# EAGLE library part XEF232-1024-FB374-C40 (library samacsys)
XMOS - XEF232-1024-FB374-C40 - MCU, 32BIT, XCORE, FBGA-374 Source: Datasheet <https://componentsearchengine.com/Datasheets/2/XEF232-1024-FB374-C40.pdf>
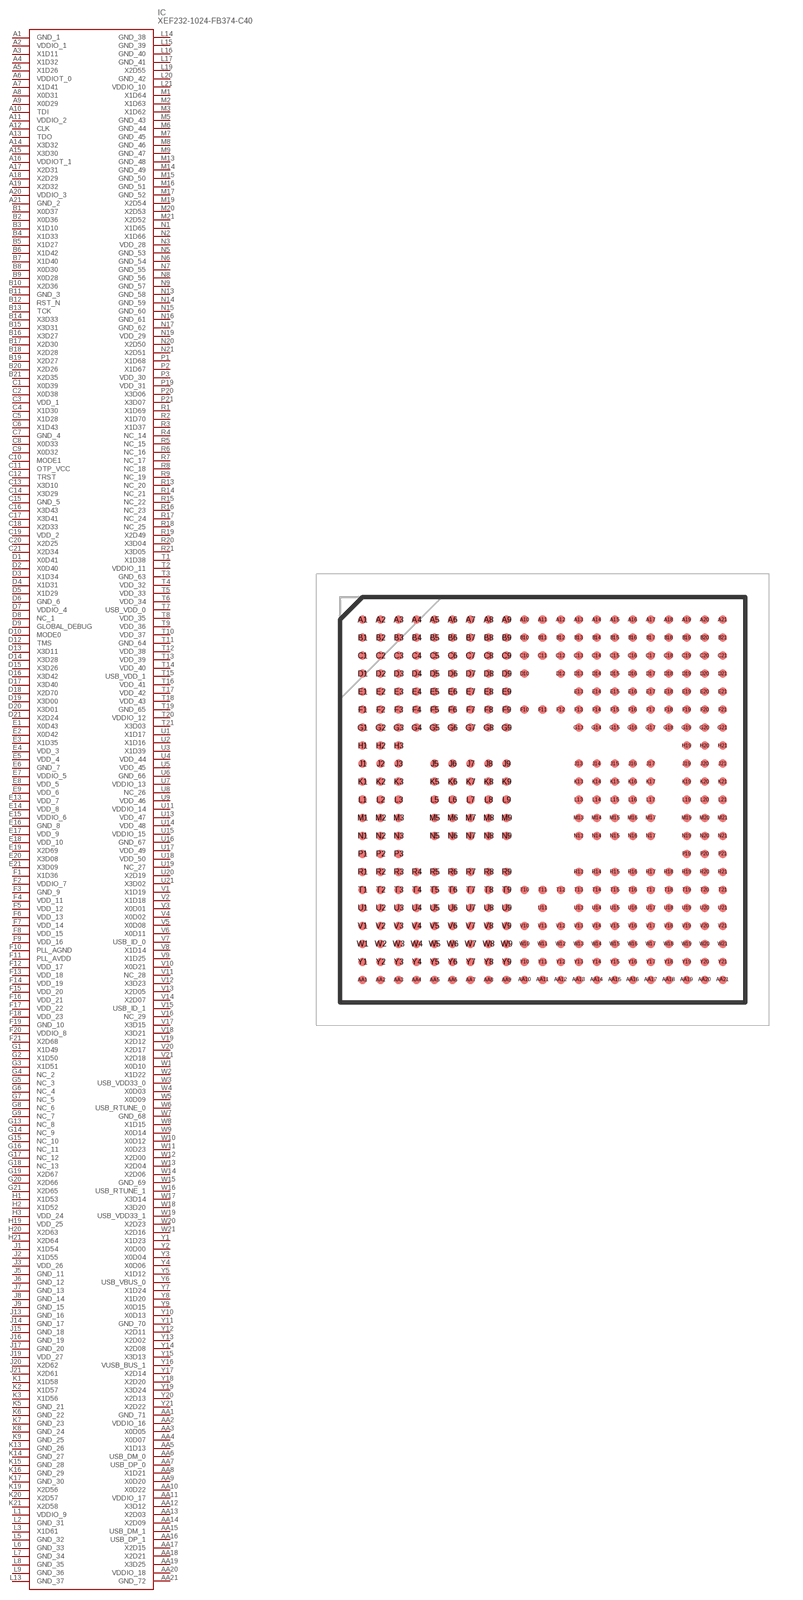
[diagram p1: symbol with the pads of BGA374C80P21X21_1800X1800X136; footprint BGA374C80P21X21_1800X1800X136]

Designator prefix IC

## XEF232-1024-FB374-C40 (Description: XMOS - XEF232-1024-FB374-C40 - MCU, 32BIT, XCORE, FBGA-374; Height: 1.36mm; Manufacturer_Name: XMOS; Manufacturer_Part_Number: XEF232-1024-FB374-C40)  [BGA374C80P21X21_1800X1800X136]
A1  GND_1
A2  VDDIO_1
A3  X1D11
A4  X1D32
A5  X1D26
A6  VDDIOT_0
A7  X1D41
A8  X0D31
A9  X0D29
A10  TDI
A11  VDDIO_2
A12  CLK
A13  TDO
A14  X3D32
A15  X3D30
A16  VDDIOT_1
A17  X2D31
A18  X2D29
A19  X2D32
A20  VDDIO_3
A21  GND_2
AA1  GND_71
AA2  VDDIO_16
AA3  X0D05
AA4  X0D07
AA5  X1D13
AA6  USB_DM_0
AA7  USB_DP_0
AA8  X1D21
AA9  X0D20
AA10  X0D22
AA11  VDDIO_17
AA12  X3D12
AA13  X2D03
AA14  X2D09
AA15  USB_DM_1
AA16  USB_DP_1
AA17  X2D15
AA18  X2D21
AA19  X3D25
AA20  VDDIO_18
AA21  GND_72
B1  X0D37
B2  X0D36
B3  X1D10
B4  X1D33
B5  X1D27
B6  X1D42
B7  X1D40
B8  X0D30
B9  X0D28
B10  X2D36
B11  GND_3
B12  RST_N
B13  TCK
B14  X3D33
B15  X3D31
B16  X3D27
B17  X2D30
B18  X2D28
B19  X2D27
B20  X2D26
B21  X2D35
C1  X0D39
C2  X0D38
C3  VDD_1
C4  X1D30
C5  X1D28
C6  X1D43
C7  GND_4
C8  X0D33
C9  X0D32
C10  MODE1
C11  OTP_VCC
C12  TRST
C13  X3D10
C14  X3D29
C15  GND_5
C16  X3D43
C17  X3D41
C18  X2D33
C19  VDD_2
C20  X2D25
C21  X2D34
D1  X0D41
D2  X0D40
D3  X1D34
D4  X1D31
D5  X1D29
D6  GND_6
D7  VDDIO_4
D8  NC_1
D9  GLOBAL_DEBUG
D10  MODE0
D12  TMS
D13  X3D11
D14  X3D28
D15  X3D26
D16  X3D42
D17  X3D40
D18  X2D70
D19  X3D00
D20  X3D01
D21  X2D24
E1  X0D43
E2  X0D42
E3  X1D35
E4  VDD_3
E5  VDD_4
E6  GND_7
E7  VDDIO_5
E8  VDD_5
E9  VDD_6
E13  VDD_7
E14  VDD_8
E15  VDDIO_6
E16  GND_8
E17  VDD_9
E18  VDD_10
E19  X2D69
E20  X3D08
E21  X3D09
F1  X1D36
F2  VDDIO_7
F3  GND_9
F4  VDD_11
F5  VDD_12
F6  VDD_13
F7  VDD_14
F8  VDD_15
F9  VDD_16
F10  PLL_AGND
F11  PLL_AVDD
F12  VDD_17
F13  VDD_18
F14  VDD_19
F15  VDD_20
F16  VDD_21
F17  VDD_22
F18  VDD_23
F19  GND_10
F20  VDDIO_8
F21  X2D68
G1  X1D49
G2  X1D50
G3  X1D51
G4  NC_2
G5  NC_3
G6  NC_4
G7  NC_5
G8  NC_6
G9  NC_7
G13  NC_8
G14  NC_9
G15  NC_10
G16  NC_11
G17  NC_12
G18  NC_13
G19  X2D67
G20  X2D66
G21  X2D65
H1  X1D53
H2  X1D52
H3  VDD_24
H19  VDD_25
H20  X2D63
H21  X2D64
J1  X1D54
J2  X1D55
J3  VDD_26
J5  GND_11
J6  GND_12
J7  GND_13
J8  GND_14
J9  GND_15
J13  GND_16
J14  GND_17
J15  GND_18
J16  GND_19
J17  GND_20
J19  VDD_27
J20  X2D62
J21  X2D61
K1  X1D58
K2  X1D57
K3  X1D56
K5  GND_21
K6  GND_22
K7  GND_23
K8  GND_24
K9  GND_25
K13  GND_26
K14  GND_27
K15  GND_28
K16  GND_29
K17  GND_30
K19  X2D56
K20  X2D57
K21  X2D58
L1  VDDIO_9
L2  GND_31
L3  X1D61
L5  GND_32
L6  GND_33
L7  GND_34
L8  GND_35
L9  GND_36
L13  GND_37
L14  GND_38
L15  GND_39
L16  GND_40
L17  GND_41
L19  X2D55
L20  GND_42
L21  VDDIO_10
M1  X1D64
M2  X1D63
M3  X1D62
M5  GND_43
M6  GND_44
M7  GND_45
M8  GND_46
M9  GND_47
M13  GND_48
M14  GND_49
M15  GND_50
M16  GND_51
M17  GND_52
M19  X2D54
M20  X2D53
M21  X2D52
N1  X1D65
N2  X1D66
N3  VDD_28
N5  GND_53
N6  GND_54
N7  GND_55
N8  GND_56
N9  GND_57
N13  GND_58
N14  GND_59
N15  GND_60
N16  GND_61
N17  GND_62
N19  VDD_29
N20  X2D50
N21  X2D51
P1  X1D68
P2  X1D67
P3  VDD_30
P19  VDD_31
P20  X3D06
P21  X3D07
R1  X1D69
R2  X1D70
R3  X1D37
R4  NC_14
R5  NC_15
R6  NC_16
R7  NC_17
R8  NC_18
R9  NC_19
R13  NC_20
R14  NC_21
R15  NC_22
R16  NC_23
R17  NC_24
R18  NC_25
R19  X2D49
R20  X3D04
R21  X3D05
T1  X1D38
T2  VDDIO_11
T3  GND_63
T4  VDD_32
T5  VDD_33
T6  VDD_34
T7  USB_VDD_0
T8  VDD_35
T9  VDD_36
T10  VDD_37
T11  GND_64
T12  VDD_38
T13  VDD_39
T14  VDD_40
T15  USB_VDD_1
T16  VDD_41
T17  VDD_42
T18  VDD_43
T19  GND_65
T20  VDDIO_12
T21  X3D03
U1  X1D17
U2  X1D16
U3  X1D39
U4  VDD_44
U5  VDD_45
U6  GND_66
U7  VDDIO_13
U8  NC_26
U9  VDD_46
U11  VDDIO_14
U13  VDD_47
U14  VDD_48
U15  VDDIO_15
U16  GND_67
U17  VDD_49
U18  VDD_50
U19  NC_27
U20  X2D19
U21  X3D02
V1  X1D19
V2  X1D18
V3  X0D01
V4  X0D02
V5  X0D08
V6  X0D11
V7  USB_ID_0
V8  X1D14
V9  X1D25
V10  X0D21
V11  NC_28
V12  X3D23
V13  X2D05
V14  X2D07
V15  USB_ID_1
V16  NC_29
V17  X3D15
V18  X3D21
V19  X2D12
V20  X2D17
V21  X2D18
W1  X0D10
W2  X1D22
W3  USB_VDD33_0
W4  X0D03
W5  X0D09
W6  USB_RTUNE_0
W7  GND_68
W8  X1D15
W9  X0D14
W10  X0D12
W11  X0D23
W12  X2D00
W13  X2D04
W14  X2D06
W15  GND_69
W16  USB_RTUNE_1
W17  X3D14
W18  X3D20
W19  USB_VDD33_1
W20  X2D23
W21  X2D16
Y1  X1D23
Y2  X0D00
Y3  X0D04
Y4  X0D06
Y5  X1D12
Y6  USB_VBUS_0
Y7  X1D24
Y8  X1D20
Y9  X0D15
Y10  X0D13
Y11  GND_70
Y12  X2D11
Y13  X2D02
Y14  X2D08
Y15  X3D13
Y16  VUSB_BUS_1
Y17  X2D14
Y18  X2D20
Y19  X3D24
Y20  X2D13
Y21  X2D22

## Footprint BGA374C80P21X21_1800X1800X136 (pad centres in mm)
XEF232-1024-FB374-C40
smd 0.37 x 0.37: A1 -8,8; A2 -7.2,8; A3 -6.4,8; A4 -5.6,8; A5 -4.8,8; A6 -4,8; A7 -3.2,8; A8 -2.4,8; A9 -1.6,8; A10 -0.8,8; A11 0,8; A12 0.8,8; A13 1.6,8; A14 2.4,8; A15 3.2,8; A16 4,8; A17 4.8,8; A18 5.6,8; A19 6.4,8; A20 7.2,8; A21 8,8; AA1 -8,-8; AA2 -7.2,-8; AA3 -6.4,-8; AA4 -5.6,-8; AA5 -4.8,-8; AA6 -4,-8; AA7 -3.2,-8; AA8 -2.4,-8; AA9 -1.6,-8; AA10 -0.8,-8; AA11 0,-8; AA12 0.8,-8; AA13 1.6,-8; AA14 2.4,-8; AA15 3.2,-8; AA16 4,-8; AA17 4.8,-8; AA18 5.6,-8; AA19 6.4,-8; AA20 7.2,-8; AA21 8,-8; B1 -8,7.2; B2 -7.2,7.2; B3 -6.4,7.2; B4 -5.6,7.2; B5 -4.8,7.2; B6 -4,7.2; B7 -3.2,7.2; B8 -2.4,7.2; B9 -1.6,7.2; B10 -0.8,7.2; B11 0,7.2; B12 0.8,7.2; B13 1.6,7.2; B14 2.4,7.2; B15 3.2,7.2; B16 4,7.2; B17 4.8,7.2; B18 5.6,7.2; B19 6.4,7.2; B20 7.2,7.2; B21 8,7.2; C1 -8,6.4; C2 -7.2,6.4; C3 -6.4,6.4; C4 -5.6,6.4; C5 -4.8,6.4; C6 -4,6.4; C7 -3.2,6.4; C8 -2.4,6.4; C9 -1.6,6.4; C10 -0.8,6.4; C11 0,6.4; C12 0.8,6.4; C13 1.6,6.4; C14 2.4,6.4; C15 3.2,6.4; C16 4,6.4; C17 4.8,6.4; C18 5.6,6.4; C19 6.4,6.4; C20 7.2,6.4; C21 8,6.4; D1 -8,5.6; D2 -7.2,5.6; D3 -6.4,5.6; D4 -5.6,5.6; D5 -4.8,5.6; D6 -4,5.6; D7 -3.2,5.6; D8 -2.4,5.6; D9 -1.6,5.6; D10 -0.8,5.6; D12 0.8,5.6; D13 1.6,5.6; D14 2.4,5.6; D15 3.2,5.6; D16 4,5.6; D17 4.8,5.6; D18 5.6,5.6; D19 6.4,5.6; D20 7.2,5.6; D21 8,5.6; E1 -8,4.8; E2 -7.2,4.8; E3 -6.4,4.8; E4 -5.6,4.8; E5 -4.8,4.8; E6 -4,4.8; E7 -3.2,4.8; E8 -2.4,4.8; E9 -1.6,4.8; E13 1.6,4.8; E14 2.4,4.8; E15 3.2,4.8; E16 4,4.8; E17 4.8,4.8; E18 5.6,4.8; E19 6.4,4.8; E20 7.2,4.8; E21 8,4.8; F1 -8,4; F2 -7.2,4; F3 -6.4,4; F4 -5.6,4; F5 -4.8,4; F6 -4,4; F7 -3.2,4; F8 -2.4,4; F9 -1.6,4; F10 -0.8,4; F11 0,4; F12 0.8,4; F13 1.6,4; F14 2.4,4; F15 3.2,4; F16 4,4; F17 4.8,4; F18 5.6,4; F19 6.4,4; F20 7.2,4; F21 8,4; G1 -8,3.2; G2 -7.2,3.2; G3 -6.4,3.2; G4 -5.6,3.2; G5 -4.8,3.2; G6 -4,3.2; G7 -3.2,3.2; G8 -2.4,3.2; G9 -1.6,3.2; G13 1.6,3.2; G14 2.4,3.2; G15 3.2,3.2; G16 4,3.2; G17 4.8,3.2; G18 5.6,3.2; G19 6.4,3.2; G20 7.2,3.2; G21 8,3.2; H1 -8,2.4; H2 -7.2,2.4; H3 -6.4,2.4; H19 6.4,2.4; H20 7.2,2.4; H21 8,2.4; J1 -8,1.6; J2 -7.2,1.6; J3 -6.4,1.6; J5 -4.8,1.6; J6 -4,1.6; J7 -3.2,1.6; J8 -2.4,1.6; J9 -1.6,1.6; J13 1.6,1.6; J14 2.4,1.6; J15 3.2,1.6; J16 4,1.6; J17 4.8,1.6; J19 6.4,1.6; J20 7.2,1.6; J21 8,1.6; K1 -8,0.8; K2 -7.2,0.8; K3 -6.4,0.8; K5 -4.8,0.8; K6 -4,0.8; K7 -3.2,0.8; K8 -2.4,0.8; K9 -1.6,0.8; K13 1.6,0.8; K14 2.4,0.8; K15 3.2,0.8; K16 4,0.8; K17 4.8,0.8; K19 6.4,0.8; K20 7.2,0.8; K21 8,0.8; L1 -8,0; L2 -7.2,0; L3 -6.4,0; L5 -4.8,0; L6 -4,0; L7 -3.2,0; L8 -2.4,0; L9 -1.6,0; L13 1.6,0; L14 2.4,0; L15 3.2,0; L16 4,0; L17 4.8,0; L19 6.4,0; L20 7.2,0; L21 8,0; M1 -8,-0.8; M2 -7.2,-0.8; M3 -6.4,-0.8; M5 -4.8,-0.8; M6 -4,-0.8; M7 -3.2,-0.8; M8 -2.4,-0.8; M9 -1.6,-0.8; M13 1.6,-0.8; M14 2.4,-0.8; M15 3.2,-0.8; M16 4,-0.8; M17 4.8,-0.8; M19 6.4,-0.8; M20 7.2,-0.8; M21 8,-0.8; N1 -8,-1.6; N2 -7.2,-1.6; N3 -6.4,-1.6; N5 -4.8,-1.6; N6 -4,-1.6; N7 -3.2,-1.6; N8 -2.4,-1.6; N9 -1.6,-1.6; N13 1.6,-1.6; N14 2.4,-1.6; N15 3.2,-1.6; N16 4,-1.6; N17 4.8,-1.6; N19 6.4,-1.6; N20 7.2,-1.6; N21 8,-1.6; P1 -8,-2.4; P2 -7.2,-2.4; P3 -6.4,-2.4; P19 6.4,-2.4; P20 7.2,-2.4; P21 8,-2.4; R1 -8,-3.2; R2 -7.2,-3.2; R3 -6.4,-3.2; R4 -5.6,-3.2; R5 -4.8,-3.2; R6 -4,-3.2; R7 -3.2,-3.2; R8 -2.4,-3.2; R9 -1.6,-3.2; R13 1.6,-3.2; R14 2.4,-3.2; R15 3.2,-3.2; R16 4,-3.2; R17 4.8,-3.2; R18 5.6,-3.2; R19 6.4,-3.2; R20 7.2,-3.2; R21 8,-3.2; T1 -8,-4; T2 -7.2,-4; T3 -6.4,-4; T4 -5.6,-4; T5 -4.8,-4; T6 -4,-4; T7 -3.2,-4; T8 -2.4,-4; T9 -1.6,-4; T10 -0.8,-4; T11 0,-4; T12 0.8,-4; T13 1.6,-4; T14 2.4,-4; T15 3.2,-4; T16 4,-4; T17 4.8,-4; T18 5.6,-4; T19 6.4,-4; T20 7.2,-4; T21 8,-4; U1 -8,-4.8; U2 -7.2,-4.8; U3 -6.4,-4.8; U4 -5.6,-4.8; U5 -4.8,-4.8; U6 -4,-4.8; U7 -3.2,-4.8; U8 -2.4,-4.8; U9 -1.6,-4.8; U11 0,-4.8; U13 1.6,-4.8; U14 2.4,-4.8; U15 3.2,-4.8; U16 4,-4.8; U17 4.8,-4.8; U18 5.6,-4.8; U19 6.4,-4.8; U20 7.2,-4.8; U21 8,-4.8; V1 -8,-5.6; V2 -7.2,-5.6; V3 -6.4,-5.6; V4 -5.6,-5.6; V5 -4.8,-5.6; V6 -4,-5.6; V7 -3.2,-5.6; V8 -2.4,-5.6; V9 -1.6,-5.6; V10 -0.8,-5.6; V11 0,-5.6; V12 0.8,-5.6; V13 1.6,-5.6; V14 2.4,-5.6; V15 3.2,-5.6; V16 4,-5.6; V17 4.8,-5.6; V18 5.6,-5.6; V19 6.4,-5.6; V20 7.2,-5.6; V21 8,-5.6; W1 -8,-6.4; W2 -7.2,-6.4; W3 -6.4,-6.4; W4 -5.6,-6.4; W5 -4.8,-6.4; W6 -4,-6.4; W7 -3.2,-6.4; W8 -2.4,-6.4; W9 -1.6,-6.4; W10 -0.8,-6.4; W11 0,-6.4; W12 0.8,-6.4; W13 1.6,-6.4; W14 2.4,-6.4; W15 3.2,-6.4; W16 4,-6.4; W17 4.8,-6.4; W18 5.6,-6.4; W19 6.4,-6.4; W20 7.2,-6.4; W21 8,-6.4; Y1 -8,-7.2; Y2 -7.2,-7.2; Y3 -6.4,-7.2; Y4 -5.6,-7.2; Y5 -4.8,-7.2; Y6 -4,-7.2; Y7 -3.2,-7.2; Y8 -2.4,-7.2; Y9 -1.6,-7.2; Y10 -0.8,-7.2; Y11 0,-7.2; Y12 0.8,-7.2; Y13 1.6,-7.2; Y14 2.4,-7.2; Y15 3.2,-7.2; Y16 4,-7.2; Y17 4.8,-7.2; Y18 5.6,-7.2; Y19 6.4,-7.2; Y20 7.2,-7.2; Y21 8,-7.2